# Altium schematic symbol library Sdkd_schlib.SchLib: 2 symbols
Pins are listed as number, name and electrical type; pins without a type are passive.

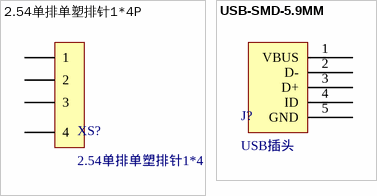
[diagram p0: symbols 2.54单排单塑排针1*4P to USB-SMD-5.9MM]

## 2.54单排单塑排针1*4P
designator XS?
footprint PIN4
pins: 1, 2, 3, 4

## USB-SMD-5.9MM
designator J?, comment USB插头
footprint MICRO-USB-SMD_5P-P0.65-H-F_MICRO5.9MMUSB
pins: 1 VBUS, 2 D-, 3 D+, 4 ID, 5 GND